# Altium schematic symbol library Phoenix_1757242.SchLib: 1 symbol
Pins are listed as number, name and electrical type; pins without a type are passive.

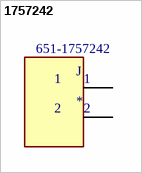
[diagram p0: symbol 1757242]

## 1757242
designator J  Supplier Part Number 1: 651-1757242
2 Position Terminal Block Header, Male Pins, Shrouded _4 Side_ 0.200 _5.08mm_ 90Â°, Right Angle Through Hole; MP: 1757242; MF: Phoenix Contact; Package: None; Digi-Key_Part_Number: 277-1106-ND; Digi-Key_Purchase_URL: https://www.digikey.ch/product-detail/en/phoenix-contact/1757242/277-1106-ND/260474?utm_source=snapeda&utm_medium=aggregator&utm_campaign=symbol; Value: *; SnapEDA_Link: https://www.snapeda.com/parts/1757242/Phoenix%20Contact/view-part/228512/?ref=snap; Supplier 1: Mouser
footprint PHOENIX_1757242
text: 1; 2